# EAGLE library part PCM1808PWR (library PCM1808PWR)
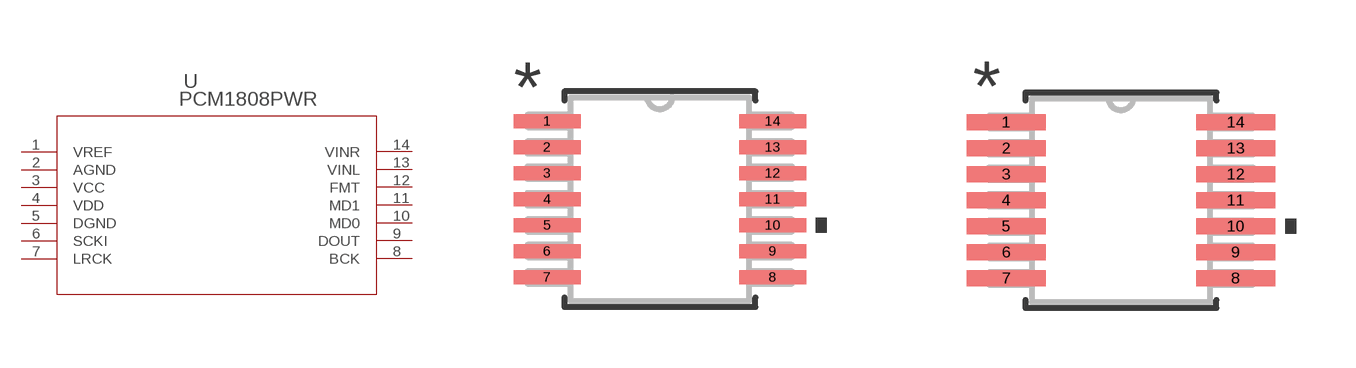
[diagram p0: symbol with the pads of PW14; footprints PW14, PW14-M]

Designator prefix U

## PCM1808PWR (MANUFACTURER_PART_NUMBER: PCM1808PWR; VENDOR: Texas Instruments)  [PW14]
1  VREF  pwr
2  AGND  pwr
3  VCC  pwr
4  VDD  pwr
5  DGND  pwr
6  SCKI  in
7  LRCK
8  BCK
9  DOUT  out
10  MD0  in
11  MD1  in
12  FMT  in
13  VINL  in
14  VINR  in

## PCM1808PWRPW14-M (MANUFACTURER_PART_NUMBER: PCM1808PWR; VENDOR: Texas Instruments)  [PW14-M]
Pads as for PW14

## PCM1808PWRPW14-L (MANUFACTURER_PART_NUMBER: PCM1808PWR; VENDOR: Texas Instruments)  [PW14-L]
Pads as for PW14

## Footprint PW14 (pad centres in mm)
smd 1.676 x 0.356: 1 -2.819,1.95; 2 -2.819,1.3; 3 -2.819,0.65; 4 -2.819,0; 5 -2.819,-0.65; 6 -2.819,-1.3; 7 -2.819,-1.95; 8 2.819,-1.95; 9 2.819,-1.3; 10 2.819,-0.65; 11 2.819,0; 12 2.819,0.65; 13 2.819,1.3; 14 2.819,1.95

## Footprint PW14-M (pad centres in mm)
smd 1.981 x 0.406: 1 -2.87,1.95; 2 -2.87,1.3; 3 -2.87,0.65; 4 -2.87,0; 5 -2.87,-0.65; 6 -2.87,-1.3; 7 -2.87,-1.95; 8 2.87,-1.95; 9 2.87,-1.3; 10 2.87,-0.65; 11 2.87,0; 12 2.87,0.65; 13 2.87,1.3; 14 2.87,1.95

## Footprint PW14-L (pad centres in mm)
smd 1.372 x 0.305: 1 -2.769,1.95; 2 -2.769,1.3; 3 -2.769,0.65; 4 -2.769,0; 5 -2.769,-0.65; 6 -2.769,-1.3; 7 -2.769,-1.95; 8 2.769,-1.95; 9 2.769,-1.3; 10 2.769,-0.65; 11 2.769,0; 12 2.769,0.65; 13 2.769,1.3; 14 2.769,1.95